# Altium footprint library Components - 29.06.23 - 16.37.PcbLib: 4 footprints
Each footprint in its own frame and in the unit in brackets; x right, y up, seen from the top. Pads: shape width x height; smd on the part's side, far side on the other; paste and mask are expansions set on the pad; w line width, h text height; cw(c..) or ccw(c..) is an arc to the next point about the centre after c.
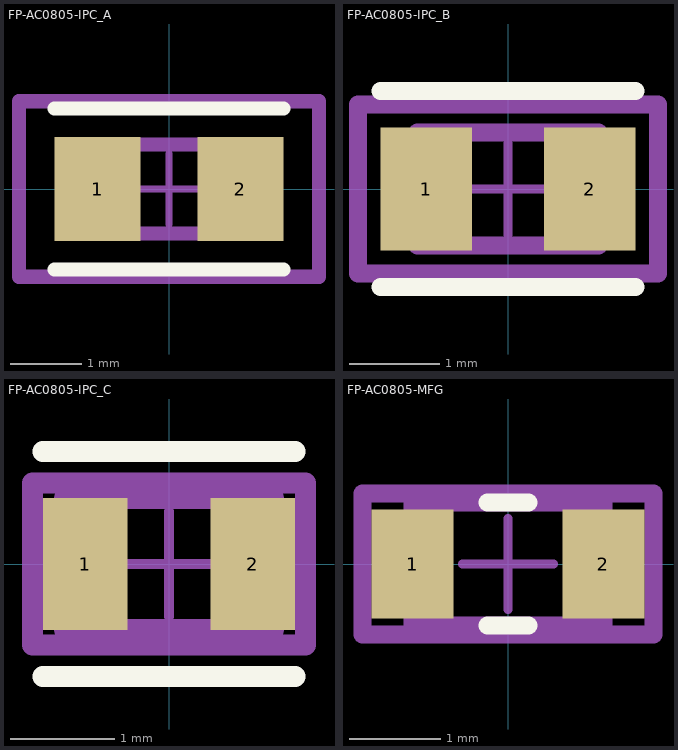
[diagram p0: the footprints below, top view; thin cyan lines are the x and y axes]

## FP-AC0805-IPC_A [mm]
pads (2):
  rect 1.208x1.462 smd paste+0 mask+0: 1(-1.002,0) 2(1.002,0)
Top Overlay:
  lines w0.2: -1.606,-1.131 1.606,-1.131 ; -1.606,1.131 1.606,1.131
Mechanical 5:
  lines w0.2: -2.106,-1.231 2.106,-1.231 2.106,1.231 -2.106,1.231 -2.106,-1.231
  text ".Designator" at 0,0.188 h1
Mechanical 13:
  lines w0.2: -1,-0.625 1,-0.625 1,0.625 -1,0.625 -1,-0.625
Mechanical 15:
  lines w0.2: -2.106,-1.231 2.106,-1.231 2.106,1.231 -2.106,1.231 -2.106,-1.231
Mechanical 16:
  lines w0.1: -0.5,0 0.5,0 ; 0,-0.5 0,0.5
3D body "Res_Yageo_AC0805FR-074R22L_eec.STEP": height 0.25, standoff 0, extent -2.106,-1.231 2.106,1.231

## FP-AC0805-IPC_B [mm]
pads (2):
  rect 1.008x1.362 smd paste+0 mask+0: 1(-0.902,0) 2(0.902,0)
Top Overlay:
  lines w0.2: -1.406,-1.081 1.406,-1.081 ; -1.406,1.081 1.406,1.081
Mechanical 5:
  lines w0.2: -1.656,-0.931 1.656,-0.931 1.656,0.931 -1.656,0.931 -1.656,-0.931
  text ".Designator" at 0,0.188 h1
Mechanical 13:
  lines w0.2: -1,-0.625 1,-0.625 1,0.625 -1,0.625 -1,-0.625
Mechanical 15:
  lines w0.2: -1.656,-0.931 1.656,-0.931 1.656,0.931 -1.656,0.931 -1.656,-0.931
Mechanical 16:
  lines w0.1: -0.5,0 0.5,0 ; 0,-0.5 0,0.5
3D body "Res_Yageo_AC0805FR-074R22L_eec.STEP": height 0.25, standoff 0, extent -1.656,-0.931 1.656,0.931

## FP-AC0805-IPC_C [mm]
pads (2):
  rect 0.808x1.262 smd paste+0 mask+0: 1(-0.802,0) 2(0.802,0)
Top Overlay:
  lines w0.2: -1.206,-1.075 1.206,-1.075 ; -1.206,1.075 1.206,1.075
Mechanical 5:
  lines w0.2: -1.306,-0.775 1.306,-0.775 1.306,0.775 -1.306,0.775 -1.306,-0.775
  text ".Designator" at 0,0.188 h1
Mechanical 13:
  lines w0.2: -1,-0.625 1,-0.625 1,0.625 -1,0.625 -1,-0.625
Mechanical 15:
  lines w0.2: -1.306,-0.775 1.306,-0.775 1.306,0.775 -1.306,0.775 -1.306,-0.775
Mechanical 16:
  lines w0.1: -0.5,0 0.5,0 ; 0,-0.5 0,0.5
3D body "Res_Yageo_AC0805FR-074R22L_eec.STEP": height 0.25, standoff 0, extent -1.306,-0.775 1.306,0.775

## FP-AC0805-MFG [mm]
pads (2):
  rect 0.9x1.2 smd paste+0 mask+0: 1(-1.05,0) 2(1.05,0)
Top Overlay:
  lines w0.2: -0.225,-0.675 0.225,-0.675 ; -0.225,0.675 0.225,0.675
Mechanical 5:
  lines w0.2: -1.6,-0.775 1.6,-0.775 1.6,0.775 -1.6,0.775 -1.6,-0.775
  text ".Designator" at 0,0.188 h1
Mechanical 13:
  lines w0.2: -1.05,-0.675 1.05,-0.675 1.05,0.675 -1.05,0.675 -1.05,-0.675
Mechanical 15:
  lines w0.2: -1.6,-0.775 1.6,-0.775 1.6,0.775 -1.6,0.775 -1.6,-0.775
Mechanical 16:
  lines w0.1: -0.5,0 0.5,0 ; 0,-0.5 0,0.5
3D body "Res_Yageo_AC0805FR-074R22L_eec.STEP": height 0.25, standoff 0, extent -1.6,-0.775 1.6,0.775